# Altium footprint library Footprints.PcbLib: 18 footprints (part 2 of 2)
Each footprint in its own frame and in the unit in brackets; x right, y up, seen from the top. Pads: shape width x height; smd on the part's side, far side on the other; paste and mask are expansions set on the pad; w line width, h text height; cw(c..) or ccw(c..) is an arc to the next point about the centre after c.
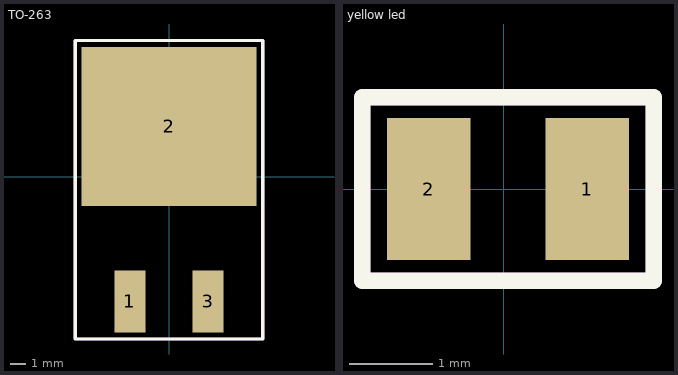
[diagram p1: the footprints below, top view; thin cyan lines are the x and y axes]

## TO-263 [mm]
pads (3):
  rect 2x4 smd: 1(-2.5,-8) 3(2.5,-8)
  rect 11.2x10.2 smd: 2(0,3.2)
Top Overlay:
  lines w0.2: -6,-10.4 6,-10.4 6,8.7 -6,8.7 -6,-10.4
Mechanical 29:
  lines w0.2: -6,-10.4 6,-10.4 6,8.7 -6,8.7 -6,-10.4
  text ".Designator" at -4.998,-0.333 h1
3D body "SPB80P06P.STEP": height 4.83, standoff 0, extent -5.03,-9.15 5.03,6.09

## yellow led [mm]
pads (2):
  rect 1x1.7 smd: 1(1,0) 2(-0.9,0)
Top Overlay:
  lines w0.2: -1.7,-1.1 1.8,-1.1 1.8,1.1 -1.7,1.1 -1.7,-1.1
Mechanical 29:
  lines w0.2: -1.7,-1.1 -1.7,1.1 1.8,1.1 1.8,-1.1 -1.7,-1.1
  text ".Designator" at -1.185,-0.085 h0.3
3D body "LED-0805-Yellow.step": height 0.8, standoff -0.01, extent -1.01,-0.625 1.01,0.625